# Altium integrated library mini-360.IntLib: 1 symbol
Pins are listed as number, name and electrical type; pins without a type are passive.

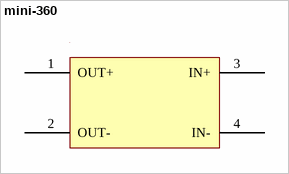
[diagram p0: symbol mini-360]

## mini-360
designator ?
footprint mini-360
pins: 1 OUT+, 2 OUT-, 3 IN+, 4 IN-